# EAGLE library part 74*45 (library NewSDR)
SINGLE-BIT DUAL-SUPPLY BUS TRANSCEIVER WITH CONFIGURABLE VOLTAGE TRANSLATION AND 3-STATE OUTPUTS
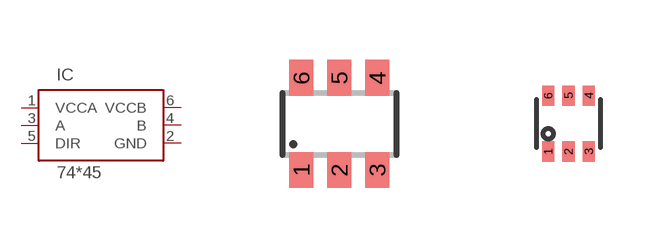
[diagram p204: symbol with the pads of SOT23-6; footprints SOT23-6, SOT-553-6]

Designator prefix IC

## 74AVC1T45DBV, 74LVC1T45DBV  [SOT23-6]
1  VCCA  pwr
2  GND  pwr
3  A
4  B
5  DIR  in
6  VCCB  pwr

## 74AVC1T45DRL, 74LVC1T45DRL  [SOT-553-6]
Pads as for SOT23-6

## 74AVC1T45DCK, 74LVC1T45DCK  [SC-70_M]
Pads as for SOT23-6

## Footprint SOT23-6 (pad centres in mm)
Small Outline Transistor 6 lead
smd 0.6 x 0.9: 1 -0.95,-1.15; 2 0,-1.15; 3 0.95,-1.15; 4 0.95,1.15; 5 0,1.15; 6 -0.95,1.15

## Footprint SOT-553-6 (pad centres in mm)
smd 0.305 x 0.508: 1 -0.508,-0.699; 2 0,-0.699; 3 0.508,-0.699; 4 0.508,0.699; 5 0,0.699; 6 -0.508,0.699

## Footprint SC-70_M (pad centres in mm)
smd 0.406 x 0.813: 1 0.65,0.95; 2 0,0.95; 3 -0.65,0.95; 4 -0.65,-0.95; 5 0,-0.95; 6 0.65,-0.95